# Altium footprint library LED DIP.PcbLib: 8 footprints
Each footprint in its own frame and in the unit in brackets; x right, y up, seen from the top. Pads: shape width x height; smd on the part's side, far side on the other; paste and mask are expansions set on the pad; w line width, h text height; cw(c..) or ccw(c..) is an arc to the next point about the centre after c.
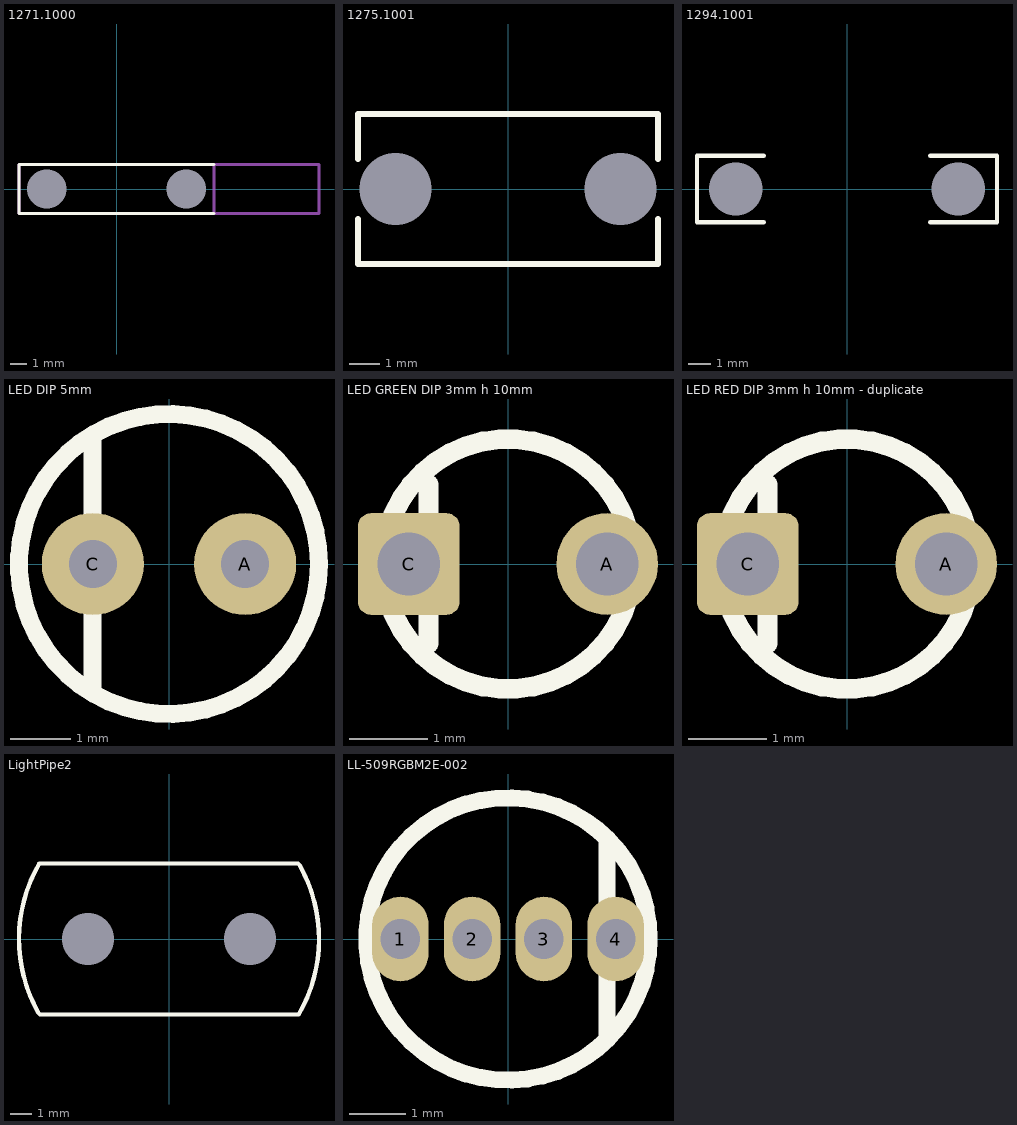
[diagram p0: the footprints below, top view; thin cyan lines are the x and y axes]

## 1271.1000 [mm] "Light pipe right angle"
height 6.58
pads (2):
  rrect10% 0x0 hole 2.4 unplated: 0(-4.25,0) 0(4.25,0)
Top Overlay:
  lines w0.2: 5.95,-1.5 -5.95,-1.5 -5.95,1.5 5.95,1.5
Mechanical 13:
  lines w0.2: 5.95,-1.5 5.95,1.5 ; -5.95,-1.5 12.35,-1.5 12.35,1.5 -5.95,1.5 -5.95,-1.5
3D body: height 6.6, standoff -2.9, extent -5.95,-1.5 12.35,1.5

## 1275.1001 [mm] "1275.1001"
height 15
pads (2):
  round 0 hole 2.4 unplated: 0(-3.75,0) 0(3.75,0)
Top Overlay:
  lines w0.2: -5,-1 -5,-2.5 5,-2.5 5,-1 ; -5,1 -5,2.5 5,2.5 5,1
3D body: height 0, standoff -3.1, extent 2.56,-1.197 4.95,1.198
3D body: height 0, standoff -3.1, extent -4.94,-1.197 -2.55,1.198
3D body: height 2.4, standoff 0, extent 2.5,-2.5 5,2.5
3D body: height 2.4, standoff 0, extent -5,-2.5 -2.5,2.5
3D body: height 8.3, standoff 2.4, extent -5,-1.5 5,1.5
3D body: height 15, standoff 5, extent -1.488,-1.497 1.5,1.497

## 1294.1001 [mm] "1294.1001"
height 15
pads (2):
  round 0 hole 2.4 unplated: 0(-5,0) 0(5,0)
Top Overlay:
  lines w0.2: -3.75,-1.5 -6.75,-1.5 -6.75,1.5 -3.75,1.5 ; 3.75,-1.5 6.75,-1.5 6.75,1.5 3.75,1.5
3D body: height 1.5, standoff 0, extent 3.75,-1.25 6.5,1.25
3D body: height 1.5, standoff 0, extent -6.5,-1.25 -3.75,1.25
3D body: height 0, standoff -3, extent 3.81,-1.197 6.2,1.198
3D body: height 0, standoff -3, extent -6.19,-1.197 -3.8,1.198
3D body: height 8.3, standoff 1.5, extent -6.5,-1.25 6.5,1.25
3D body: height 15, standoff 5, extent -1.488,-1.497 1.5,1.497

## LED DIP 5mm [mm]
pads (2):
  round 1.7 hole 0.8: A(1.27,0) C(-1.27,0)
Top Overlay:
  circle w0.3: c0,0 r2.5
  lines w0.3: -1.275,-2.075 -1.275,2.15

## LED GREEN DIP 3mm h 10mm [mm] "LED GREEN DIP 3mm h 10mm"
pads (2):
  round 1.3 hole 0.8: A(1.27,0)
  rrect25% 1.3x1.3 hole 0.8: C(-1.27,0)
Top Overlay:
  circle w0.254: c0,0 r1.6
  lines w0.254: -1.016,-1.016 -1.016,1.016
3D body: height 15.49, standoff -0.01, extent -1.6,-1.9 1.9,1.9

## LED RED DIP 3mm h 10mm - duplicate [mm] "LED RED DIP 3mm h 10mm"
pads (2):
  round 1.3 hole 0.8: A(1.27,0)
  rrect25% 1.3x1.3 hole 0.8: C(-1.27,0)
Top Overlay:
  circle w0.254: c0,0 r1.6
  lines w0.254: -1.016,-1.016 -1.016,1.016
3D body: height 15.49, standoff -0.01, extent -1.6,-1.9 1.9,1.9

## LightPipe2 [mm] "1216.1001, 1216.1002"
height 8.8
pads (2):
  round 0 hole 2.4 unplated: 0(-3.75,0) 0(3.75,0)
Top Overlay:
  lines w0.2: -6.016,3.484 ccw(c0,0) -6.05,-3.425 -5.975,-3.5 6,-3.5 6.016,-3.484 ccw(c0,0) 6.05,3.425 5.975,3.5 -6.016,3.5

## LL-509RGBM2E-002 [mm] "LED"
pads (4):
  oval 1x1.5 hole 0.7: 1(-1.905,0) 2(-0.635,0) 3(0.635,0) 4(1.905,0)
Top Overlay:
  circle w0.3: c0,0 r2.5
  lines w0.3: 1.75,-1.75 1.75,1.725 1.8,1.725